# EAGLE library part SDA32 (library MOSFET)
DIODE ARRAY
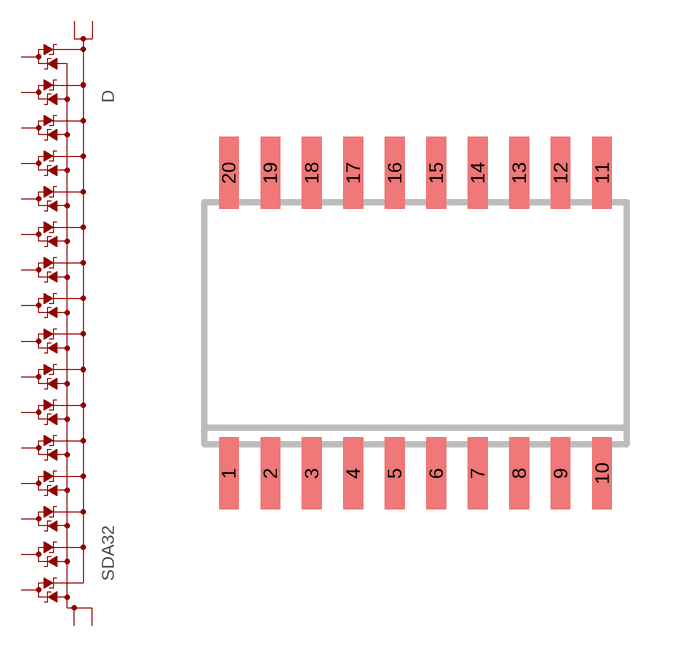
[diagram p17: symbol with the pads of SO20W; footprint SO20W]

Designator prefix D

## SDA32 (OC_FARNELL: 1749275; OC_NEWARK: unknown)  [SO20W]
1  V+  pas
2  D01  pas
3  D02  pas
4  D03  pas
5  D04  pas
6  D05  pas
7  D06  pas
8  D07  pas
9  D08  pas
10  V-  pas
11  V-1  pas
12  D09  pas
13  D10  pas
14  D11  pas
15  D12  pas
16  D13  pas
17  D14  pas
18  D15  pas
19  D16  pas
20  V+1  pas

## Footprint SO20W (pad centres in mm)
SMALL OUTLINE INTEGRATED CIRCUIT wide body 7.5 mm/JEDEC MS-013AC
smd 0.6 x 2.2: 1 -5.715,-4.6; 2 -4.445,-4.6; 3 -3.175,-4.6; 4 -1.905,-4.6; 5 -0.635,-4.6; 6 0.635,-4.6; 7 1.905,-4.6; 8 3.175,-4.6; 9 4.445,-4.6; 10 5.715,-4.6; 11 5.715,4.6; 12 4.445,4.6; 13 3.175,4.6; 14 1.905,4.6; 15 0.635,4.6; 16 -0.635,4.6; 17 -1.905,4.6; 18 -3.175,4.6; 19 -4.445,4.6; 20 -5.715,4.6